# EAGLE library part SGM8053 (library SGMicro_SGM80xx)
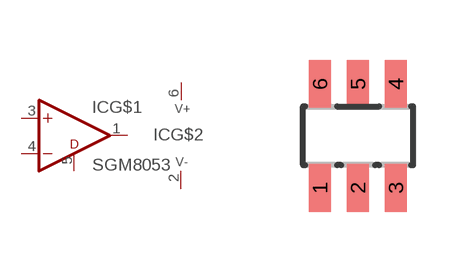
[diagram p2: symbol with the pads of SOT23-6; footprint SOT23-6]

Designator prefix IC; gates G$1=OPAMP_DISABLE G$2=PWRN

## SGM8053  [SOT23-6]
1  G$1:OUT  out
2  G$2:V-  pwr
3  G$1:+IN  in
4  G$1:-IN  in
5  G$1:DISABLE
6  G$2:V+  pwr

## Footprint SOT23-6 (pad centres in mm)
5-Lead Small Outline Transistor Package SOT-23 Source: http://www.analog.com/UploadedFiles/Data_Sheets/346131962AD8067_a.pdf
smd 0.55 x 1.2: 1 -0.95,-1.3; 2 0,-1.3; 3 0.95,-1.3; 4 0.95,1.3; 5 0.003,1.3; 6 -0.95,1.3